# Altium footprint library 2.54-PLCC插槽封装.PcbLib: 85 footprints (part 6 of 6)
Each footprint in its own frame and in the unit in brackets; x right, y up, seen from the top. Pads: shape width x height; smd on the part's side, far side on the other; paste and mask are expansions set on the pad; w line width, h text height; cw(c..) or ccw(c..) is an arc to the next point about the centre after c.
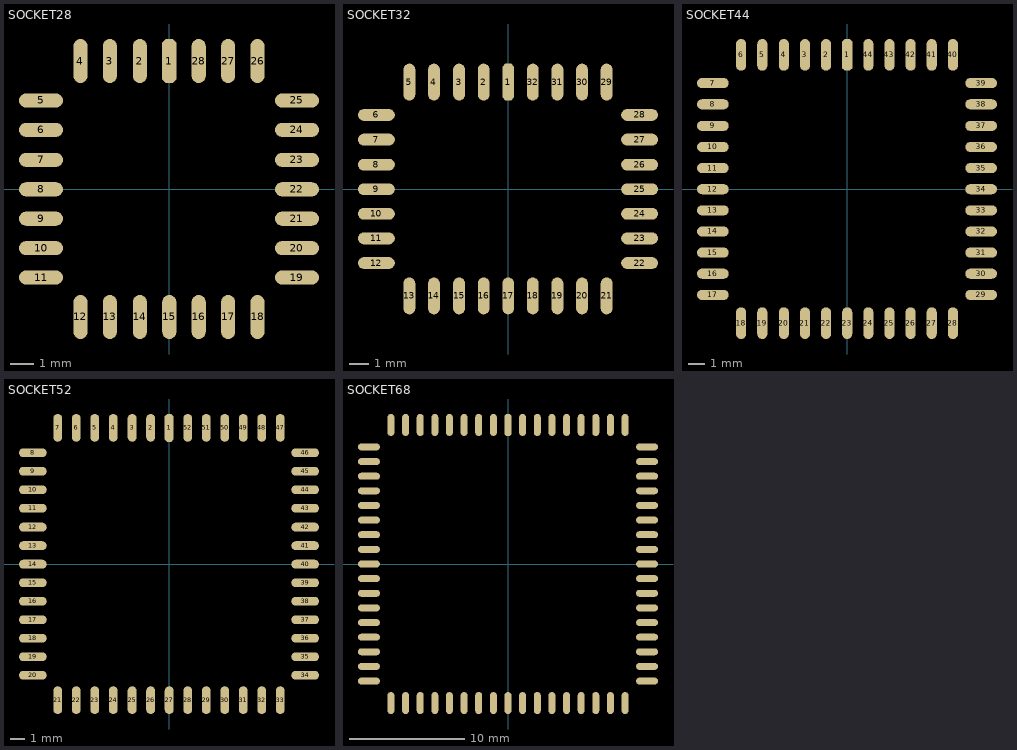
[diagram p5: the footprints below, top view; thin cyan lines are the x and y axes]

## SOCKET28 [mil]
pads (28):
  oct 24x75 smd: 1(0.5,217.5)
  oval 24x75 smd: 2(-49.5,217.5) 3(-100.5,217.5) 4(-150.5,217.5) 12(-150.5,-217.5) 13(-100.5,-217.5) 14(-49.5,-217.5) 15(0.5,-217.5) 16(50.5,-217.5) 17(100.5,-217.5) 18(150.5,-217.5) 26(150.5,217.5) 27(100.5,217.5) 28(50.5,217.5)
  oval 75x24 smd: 5(-217.5,150.5) 6(-217.5,100.5) 7(-217.5,49.5) 8(-217.5,-0.5) 9(-217.5,-50.5) 10(-217.5,-100.5) 11(-217.5,-150.5) 19(217.5,-150.5) 20(217.5,-100.5) 21(217.5,-50.5) 22(217.5,-0.5) 23(217.5,49.5) 24(217.5,100.5) 25(217.5,150.5)

## SOCKET32 [mil]
pads (32):
  oct 24x75 smd: 1(0.5,217.5)
  oval 24x75 smd: 2(-49.5,217.5) 3(-99.5,217.5) 4(-150.5,217.5) 5(-200.5,217.5) 13(-200.5,-217.5) 14(-150.5,-217.5) 15(-99.5,-217.5) 16(-49.5,-217.5) 17(0.5,-217.5) 18(50.5,-217.5) 19(100.5,-217.5) 20(150.5,-217.5) 21(200.5,-217.5) 29(200.5,217.5) 30(150.5,217.5) 31(100.5,217.5) 32(50.5,217.5)
  oval 75x24 smd: 6(-267.5,150.5) 7(-267.5,100.5) 8(-267.5,49.5) 9(-267.5,-0.5) 10(-267.5,-50.5) 11(-267.5,-100.5) 12(-267.5,-150.5) 22(267.5,-150.5) 23(267.5,-100.5) 24(267.5,-50.5) 25(267.5,-0.5) 26(267.5,49.5) 27(267.5,100.5) 28(267.5,150.5)

## SOCKET44 [mil]
pads (44):
  oct 24x75 smd: 1(0.5,317.5)
  oval 24x75 smd: 2(-49.5,317.5) 3(-99.5,317.5) 4(-149.5,317.5) 5(-200.5,317.5) 6(-250.5,317.5) 18(-250.5,-317.5) 19(-200.5,-317.5) 20(-149.5,-317.5) 21(-99.5,-317.5) 22(-49.5,-317.5) 23(0.5,-317.5) 24(50.5,-317.5) 25(100.5,-317.5) 26(150.5,-317.5) 27(200.5,-317.5) 28(250.5,-317.5) 40(250.5,317.5) 41(200.5,317.5) 42(150.5,317.5) 43(100.5,317.5) 44(50.5,317.5)
  oval 75x24 smd: 7(-317.5,250.5) 8(-317.5,200.5) 9(-317.5,149.5) 10(-317.5,99.5) 11(-317.5,49.5) 12(-317.5,-0.5) 13(-317.5,-50.5) 14(-317.5,-100.5) 15(-317.5,-150.5) 16(-317.5,-200.5) 17(-317.5,-250.5) 29(317.5,-250.5) 30(317.5,-200.5) 31(317.5,-150.5) 32(317.5,-100.5) 33(317.5,-50.5) 34(317.5,-0.5) 35(317.5,49.5) 36(317.5,99.5) 37(317.5,149.5) 38(317.5,200.5) 39(317.5,250.5)

## SOCKET52 [mil]
pads (52):
  oct 24x75 smd: 1(0.5,367.5)
  oval 24x75 smd: 2(-49.5,367.5) 3(-99.5,367.5) 4(-150.5,367.5) 5(-200.5,367.5) 6(-250.5,367.5) 7(-300.5,367.5) 21(-300.5,-367.5) 22(-250.5,-367.5) 23(-200.5,-367.5) 24(-150.5,-367.5) 25(-99.5,-367.5) 26(-49.5,-367.5) 27(0.5,-367.5) 28(50.5,-367.5) 29(100.5,-367.5) 30(150.5,-367.5) 31(200.5,-367.5) 32(250.5,-367.5) 33(300.5,-367.5) 47(300.5,367.5) 48(250.5,367.5) 49(200.5,367.5) 50(150.5,367.5) 51(100.5,367.5) 52(50.5,367.5)
  oval 75x24 smd: 8(-367.5,300.5) 9(-367.5,250.5) 10(-367.5,200.5) 11(-367.5,150.5) 12(-367.5,99.5) 13(-367.5,49.5) 14(-367.5,-0.5) 15(-367.5,-50.5) 16(-367.5,-100.5) 17(-367.5,-150.5) 18(-367.5,-200.5) 19(-367.5,-250.5) 20(-367.5,-300.5) 34(367.5,-300.5) 35(367.5,-250.5) 36(367.5,-200.5) 37(367.5,-150.5) 38(367.5,-100.5) 39(367.5,-50.5) 40(367.5,-0.5) 41(367.5,49.5) 42(367.5,99.5) 43(367.5,150.5) 44(367.5,200.5) 45(367.5,250.5) 46(367.5,300.5)

## SOCKET68 [mil]
pads (68):
  oct 24x75 smd: 1(0,475)
  oval 24x75 smd: 2(-50,475) 3(-100,475) 4(-150,475) 5(-200,475) 6(-250,475) 7(-300,475) 8(-350,475) 9(-400,475) 27(-400,-475) 28(-350,-475) 29(-300,-475) 30(-250,-475) 31(-200,-475) 32(-150,-475) 33(-100,-475) 34(-50,-475) 35(0,-475) 36(50,-475) 37(100,-475) 38(150,-475) 39(200,-475) 40(250,-475) 41(300,-475) 42(350,-475) 43(400,-475) 61(400,475) 62(350,475) 63(300,475) 64(250,475) 65(200,475) 66(150,475) 67(100,475) 68(50,475)
  oval 75x24 smd: 10(-475,400) 11(-475,350) 12(-475,300) 13(-475,250) 14(-475,200) 15(-475,150) 16(-475,100) 17(-475,50) 18(-475,0) 19(-475,-50) 20(-475,-100) 21(-475,-150) 22(-475,-200) 23(-475,-250) 24(-475,-300) 25(-475,-350) 26(-475,-400) 44(475,-400) 45(475,-350) 46(475,-300) 47(475,-250) 48(475,-200) 49(475,-150) 50(475,-100) 51(475,-50) 52(475,0) 53(475,50) 54(475,100) 55(475,150) 56(475,200) 57(475,250) 58(475,300) 59(475,350) 60(475,400)